# Altium footprint library C0603C103K5RACTU.PcbLib: 3 footprints
Each footprint in its own frame and in the unit in brackets; x right, y up, seen from the top. Pads: shape width x height; smd on the part's side, far side on the other; paste and mask are expansions set on the pad; w line width, h text height; cw(c..) or ccw(c..) is an arc to the next point about the centre after c.
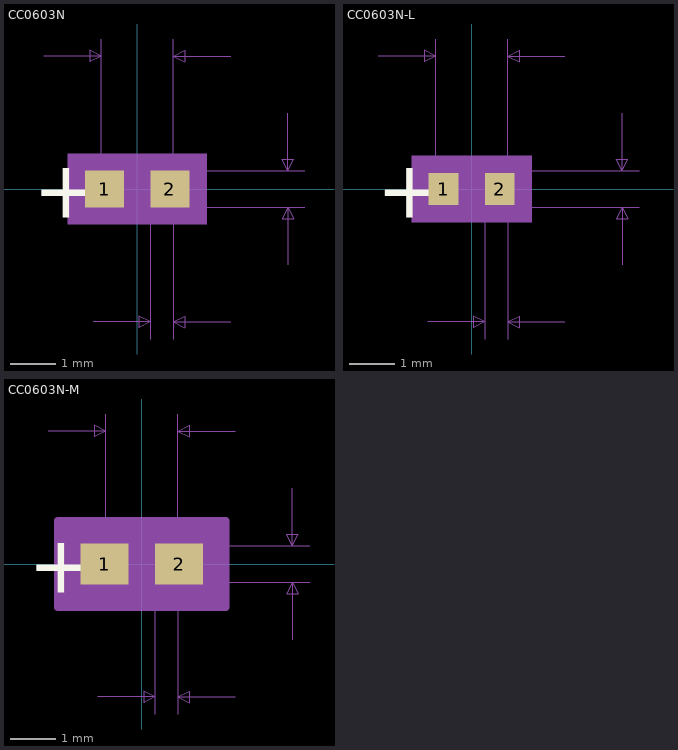
[diagram p0: the footprints below, top view; thin cyan lines are the x and y axes]

## CC0603N [mil]
pads (2):
  rect 34x32 smd: 1(-28.5,0) 2(28.5,0)
Top Overlay:
  text "+" at -91,-25 h50
Mechanical 5:
  region: 60.5,-31 -60.5,-31 -60.5,31 60.5,31
Mechanical 7:
  lines w1: -81.5,116 -31.5,116 ; -38.5,-116 11.5,-116 ; -31.5,0 -31.5,131 ; 0,-16 146.5,-16 ; 0,16 146.5,16 ; 11.5,-131 11.5,0 ; 31.5,-131 31.5,0 31.5,131 ; 81.5,-116 31.5,-116 ; 81.5,116 31.5,116 ; 131.5,-66 131.5,-16 ; 131.5,66 131.5,16 ; -31.5,116 -41.5,121 -41.5,111 -31.5,116 ; 11.5,-116 1.5,-111 1.5,-121 11.5,-116 ; 31.5,-116 41.5,-111 41.5,-121 31.5,-116 ; 31.5,116 41.5,121 41.5,111 31.5,116 ; 131.5,-16 126.5,-26 136.5,-26 131.5,-16 ; 131.5,16 126.5,26 136.5,26 131.5,16
  text "Default Padstyle: RX34Y32D0T" at -350,-286 h50
  text "Alternate 1 Padstyle: OX60Y90D30P" at -412.5,-386 h50
  text "Alternate 2 Padstyle: OX90Y60D30P" at -412.5,-486 h50
  text "0.032in/0.813mm" at 151.5,-12.5 h25
  text "0.063in/1.6mm" at -81.25,136 h25
  text "0.02in/0.508mm" at -66,-161 h25
Mechanical 13:
  lines w1: -31.5,-16 -31.5,16 ; -31.5,-16 -11.5,-16 -11.5,16 -31.5,16 ; -31.5,-16 31.5,-16 ; -31.5,-16 -31.5,16 ; -31.5,16 31.5,16 ; 31.5,-16 11.5,-16 11.5,16 31.5,16 ; 31.5,-16 31.5,16 ; 31.5,-16 31.5,16
  text "+" at -91,-25 h50
Mechanical 15:
  region: 55.5,-26 -55.5,-26 -55.5,26 55.5,26
  lines w6: -55.5,-26 -55.5,26 55.5,26 55.5,-26 -55.5,-26
3D body: height 10, standoff 0, extent 0,0 10,10

## CC0603N-L [mil]
pads (2):
  rect 26x28 smd paste+0 mask+0: 1(-24.5,0) 2(24.5,0)
Top Overlay:
  text "+" at -83,-25 h50
Mechanical 5:
  region: 52.5,-29 -52.5,-29 -52.5,29 52.5,29
Mechanical 7:
  lines w1: -81.5,116 -31.5,116 ; -38.5,-116 11.5,-116 ; -31.5,0 -31.5,131 ; 0,-16 146.5,-16 ; 0,16 146.5,16 ; 11.5,-131 11.5,0 ; 31.5,-131 31.5,0 31.5,131 ; 81.5,-116 31.5,-116 ; 81.5,116 31.5,116 ; 131.5,-66 131.5,-16 ; 131.5,66 131.5,16 ; -31.5,116 -41.5,121 -41.5,111 -31.5,116 ; 11.5,-116 1.5,-111 1.5,-121 11.5,-116 ; 31.5,-116 41.5,-111 41.5,-121 31.5,-116 ; 31.5,116 41.5,121 41.5,111 31.5,116 ; 131.5,-16 126.5,-26 136.5,-26 131.5,-16 ; 131.5,16 126.5,26 136.5,26 131.5,16
  text "Default Padstyle: RX26Y28D0T" at -350,-284 h50
  text "Alternate 1 Padstyle: OX60Y90D30P" at -412.5,-384 h50
  text "Alternate 2 Padstyle: OX90Y60D30P" at -412.5,-484 h50
  text "0.032in/0.813mm" at 151.5,-12.5 h25
  text "0.063in/1.6mm" at -81.25,136 h25
  text "0.02in/0.508mm" at -66,-161 h25
Mechanical 13:
  lines w1: -31.5,-16 -31.5,16 ; -31.5,-16 -11.5,-16 -11.5,16 -31.5,16 ; -31.5,-16 31.5,-16 ; -31.5,-16 -31.5,16 ; -31.5,16 31.5,16 ; 31.5,-16 11.5,-16 11.5,16 31.5,16 ; 31.5,-16 31.5,16 ; 31.5,-16 31.5,16
  text "+" at -83,-25 h50
Mechanical 15:
  region: 41.5,-18 -41.5,-18 -41.5,18 41.5,18
  lines w6: -41.5,-18 -41.5,18 41.5,18 41.5,-18 -41.5,-18
3D body: height 10, standoff 0, extent 0,0 10,10

## CC0603N-M [mil]
pads (2):
  rect 42x36 smd paste+0 mask+0: 1(-32.5,0) 2(32.5,0)
Top Overlay:
  text "+" at -99,-25 h50
Mechanical 5:
  region: 68.5,-33 -68.5,-33 -68.5,33 68.5,33
Mechanical 7:
  lines w1: -81.5,116 -31.5,116 ; -38.5,-116 11.5,-116 ; -31.5,0 -31.5,131 ; 0,-16 146.5,-16 ; 0,16 146.5,16 ; 11.5,-131 11.5,0 ; 31.5,-131 31.5,0 31.5,131 ; 81.5,-116 31.5,-116 ; 81.5,116 31.5,116 ; 131.5,-66 131.5,-16 ; 131.5,66 131.5,16 ; -31.5,116 -41.5,121 -41.5,111 -31.5,116 ; 11.5,-116 1.5,-111 1.5,-121 11.5,-116 ; 31.5,-116 41.5,-111 41.5,-121 31.5,-116 ; 31.5,116 41.5,121 41.5,111 31.5,116 ; 131.5,-16 126.5,-26 136.5,-26 131.5,-16 ; 131.5,16 126.5,26 136.5,26 131.5,16
  text "Default Padstyle: RX42Y36D0T" at -350,-288 h50
  text "Alternate 1 Padstyle: OX60Y90D30P" at -412.5,-388 h50
  text "Alternate 2 Padstyle: OX90Y60D30P" at -412.5,-488 h50
  text "0.032in/0.813mm" at 151.5,-12.5 h25
  text "0.063in/1.6mm" at -81.25,136 h25
  text "0.02in/0.508mm" at -66,-161 h25
Mechanical 13:
  lines w1: -31.5,-16 -31.5,16 ; -31.5,-16 -11.5,-16 -11.5,16 -31.5,16 ; -31.5,-16 31.5,-16 ; -31.5,-16 -31.5,16 ; -31.5,16 31.5,16 ; 31.5,-16 11.5,-16 11.5,16 31.5,16 ; 31.5,-16 31.5,16 ; 31.5,-16 31.5,16
  text "+" at -99,-25 h50
Mechanical 15:
  region: 73.5,-38 -73.5,-38 -73.5,38 73.5,38
  lines w6: -73.5,-38 -73.5,38 73.5,38 73.5,-38 -73.5,-38
3D body: height 10, standoff 0, extent 0,0 10,10